# Altium footprint library PcbLib1.PcbLib: 3 footprints
Each footprint in its own frame and in the unit in brackets; x right, y up, seen from the top. Pads: shape width x height; smd on the part's side, far side on the other; paste and mask are expansions set on the pad; w line width, h text height; cw(c..) or ccw(c..) is an arc to the next point about the centre after c.
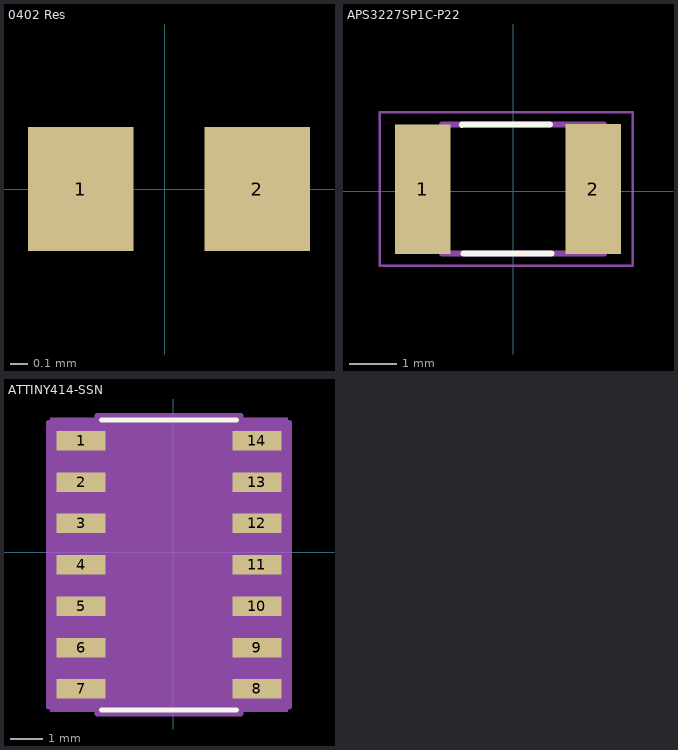
[diagram p0: the footprints below, top view; thin cyan lines are the x and y axes]

## 0402 Res [mm]
pads (2):
  rect 0.6x0.7 smd: 1(-0.475,0) 2(0.525,0)
3D body: height 0.25, standoff 0, extent -0.475,-0.25 0.525,0.25

## APS3227SP1C-P22 [mm] "Ambient Light Photo Sensor"
pads (2):
  rect 1.16x2.72 smd: 1(-1.9,0.05) 2(1.675,0.052)
Top Overlay:
  lines w0.127: -1.075,1.4 0.77,1.402 ; -1.05,-1.3 0.8,-1.3
Mechanical 13:
  lines w0.127: -1.5,-1.298 1.9,-1.298 1.9,1.402 -1.5,1.402 -1.5,-1.298
Mechanical 15:
  lines w0.05: -2.8,-1.556 2.508,-1.556 2.508,1.66 -2.8,1.66 -2.8,-1.556
3D body "step_temp.STEP": height 1.9, standoff 0, extent -1.4,-1.198 1.8,1.302

## ATTINY414-SSN [mm]
pads (14):
  rect 1.5x0.6 smd paste+0 mask+0: 1(-2.827,3.429) 2(-2.827,2.159) 3(-2.827,0.889) 4(-2.827,-0.381) 5(-2.827,-1.651) 6(-2.827,-2.921) 7(-2.827,-4.191) 8(2.573,-4.191) 9(2.573,-2.921) 10(2.573,-1.651) 11(2.573,-0.381) 12(2.573,0.889) 13(2.573,2.159) 14(2.573,3.429)
Top Overlay:
  lines w0.152: -2.204,-4.833 1.95,-4.833 ; -2.204,4.071 1.95,4.071
Mechanical 5:
  region: 3.514,-4.897 -3.768,-4.897 -3.768,4.135 3.514,4.135
Mechanical 13:
  lines w0: -0.432,3.944 ccw(c-0.127,3.944) 0.178,3.944
  lines w0.025: -2.077,-4.706 -2.077,3.944 1.823,3.944 1.823,-4.706 -2.077,-4.706
Mechanical 15:
  region: -2.331,-4.745 -3.831,-4.745 -3.831,3.983 -2.331,3.983 -2.331,4.198 2.077,4.198 2.077,3.983 3.577,3.983 3.577,-4.745 2.077,-4.745 2.077,-4.96 -2.331,-4.96
  lines w0.152: -3.831,-4.745 -2.331,-4.745 -2.331,-4.96 2.077,-4.96 2.077,-4.745 3.577,-4.745 3.577,3.983 2.077,3.983 2.077,4.198 -2.331,4.198 -2.331,3.983 -3.831,3.983 -3.831,-4.745
3D body "SOIC14_SL_MCH.step": height 1.75, standoff 0, extent -3.227,-4.706 2.973,3.944